# Altium footprint library MW260-MODIFY.PcbLib: 1 footprints
Each footprint in its own frame and in the unit in brackets; x right, y up, seen from the top. Pads: shape width x height; smd on the part's side, far side on the other; paste and mask are expansions set on the pad; w line width, h text height; cw(c..) or ccw(c..) is an arc to the next point about the centre after c.
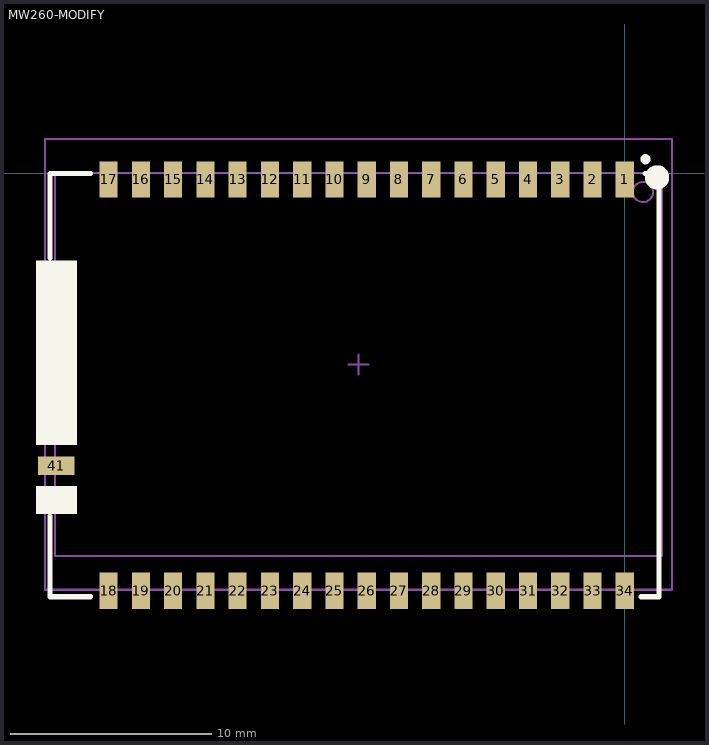
[diagram p0: the footprint, top view; thin cyan lines are the x and y axes]

## MW260-MODIFY [mm]
pads (35):
  rect 0.9x1.8 smd: 1(0,-0.3) 2(-1.6,-0.3) 3(-3.2,-0.3) 4(-4.8,-0.3) 5(-6.4,-0.3) 6(-8,-0.3) 7(-9.6,-0.3) 8(-11.2,-0.3) 9(-12.8,-0.3) 10(-14.4,-0.3) 11(-16,-0.3) 12(-17.6,-0.3) 13(-19.2,-0.3) 14(-20.8,-0.3) 15(-22.4,-0.3) 16(-24,-0.3) 17(-25.6,-0.3) 18(-25.6,-20.7) 19(-24,-20.7) 20(-22.4,-20.7) 21(-20.8,-20.7) 22(-19.2,-20.7) 23(-17.6,-20.7) 24(-16,-20.7) 25(-14.4,-20.7) 26(-12.8,-20.7) 27(-11.2,-20.7) 28(-9.6,-20.7) 29(-8,-20.7) 30(-6.4,-20.7) 31(-4.8,-20.7) 32(-3.2,-20.7) 33(-1.6,-20.7) 34(0,-20.7)
  rect 1.8x0.9 smd: 41(-28.2,-14.5)
Top Overlay:
  circle w0.6: c1.6,-0.2 r0.3
  circle w0.25: c1.025,0.7 r0.125
  rectangle: -29.21,-16.891 -27.178,-15.494
  rectangle: -29.21,-13.462 -27.178,-4.318
  lines w0.254: -28.5,-17 -28.5,-21 -26.5,-21 ; -28.5,-4.2 -28.5,0 -26.5,0 ; 0.8,-21 1.7,-21 1.7,0 1,0
Mechanical 13:
  circle w0.1: c0.9,-0.925 r0.5
  lines w0.1: -28.25,-18.975 -28.25,0.025 1.85,0.025 1.85,-18.975 -28.25,-18.975
Mechanical 15:
  lines w0.1: -13.7,-9.475 -12.7,-9.475 ; -13.2,-9.975 -13.2,-8.975 ; -28.75,-20.65 -28.75,1.7 2.35,1.7 2.35,-20.65 -28.75,-20.65
3D body: height 2.5, standoff 0.1, extent -28.5,-21 1.7,0